# Altium footprint library 165mm-v1.PcbLib: 63 footprints (part 4 of 4)
Each footprint in its own frame and in the unit in brackets; x right, y up, seen from the top. Pads: shape width x height; smd on the part's side, far side on the other; paste and mask are expansions set on the pad; w line width, h text height; cw(c..) or ccw(c..) is an arc to the next point about the centre after c.
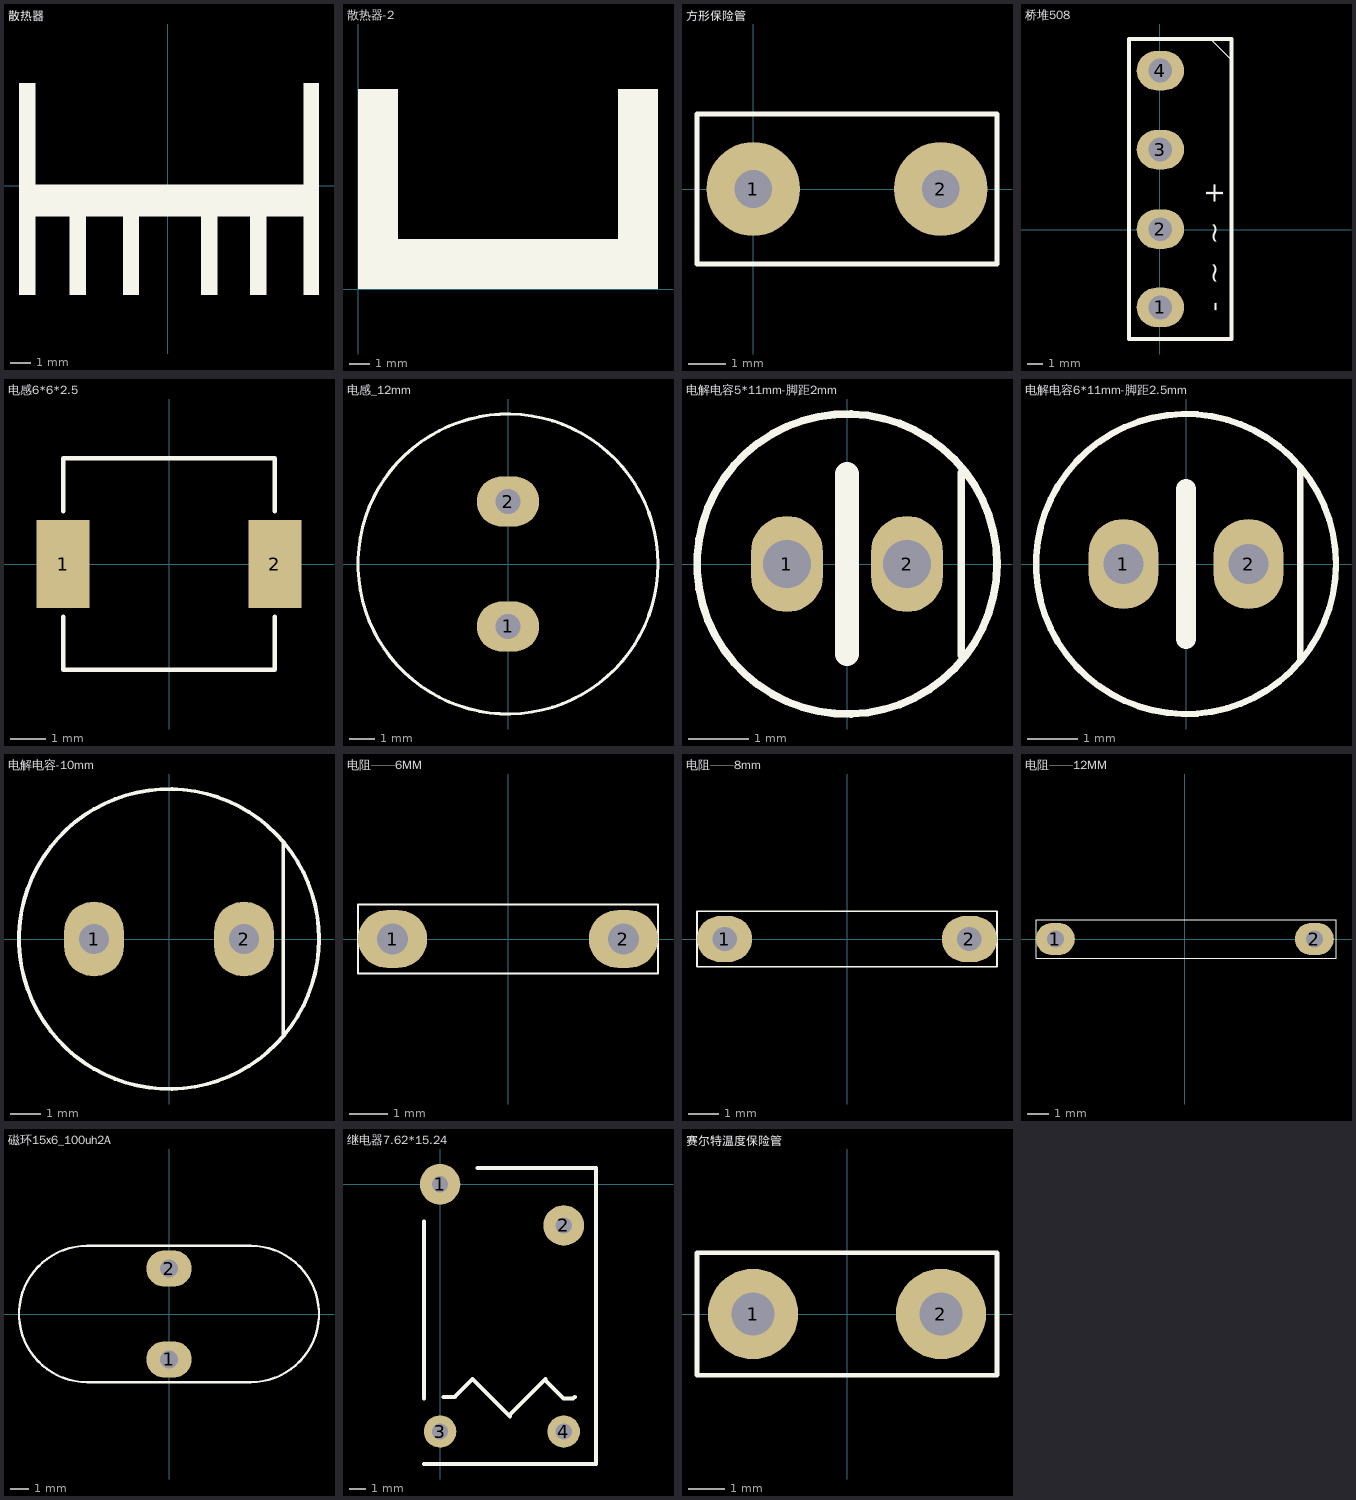
[diagram p3: the footprints below, top view; thin cyan lines are the x and y axes]

## 散热器 [mm]
height 25
Top Overlay:
  rectangle: 4.011,-5.3 4.811,-1.5
  rectangle: 1.611,-5.298 2.413,-1.234
  rectangle: -2.189,-5.3 -1.389,-1.5
  rectangle: -4.789,-5.3 -3.989,-1.5
  rectangle: -6.439,-1.49 6.604,0
  rectangle: 6.604,-5.3 7.361,5
  rectangle: -7.239,-5.3 -6.439,5
  lines w0.127: -6.439,0 6.604,0

## 散热器-2 [mm]
Top Overlay:
  rectangle: 0,0 15,2.5
  rectangle: 0,2.5 2,10
  rectangle: 13,2.5 15,10

## 方形保险管 [mm]
height 9.6
pads (2):
  round 2.5 hole 1: 1(0,0) 2(5,0)
Top Overlay:
  lines w0.127: -1.5,-2 -1.5,2 6.5,2 6.5,-2 -1.5,-2

## 桥堆508 [mm]
height 9.6
pads (4):
  oval 3x2.5 hole 1.5: 1(0.027,-4.933) 2(0.027,0.027) 3(0.027,5.067) 4(0.027,10.067)
Top Overlay:
  lines w0.1: 3,12.067 3.06,12.067 ; 3.2,12.067 4.527,10.74 4.527,10.6
  lines w0.254: -1.973,-6.933 4.527,-6.933 4.527,12.067 -1.973,12.067 -1.973,-6.933
  text "-  ~  ~  +" at 4,-5.2 h1.27

## 电感6*6*2.5 [mm]
pads (2):
  rect 1.5x2.5 smd: 1(-3,0) 2(3,0)
Top Overlay:
  lines w0.127: -3,-1.5 -3,-3 3,-3 3,-1.5 ; -3,1.5 -3,3 3,3 3,1.5

## 电感_12mm [mm]
pads (2):
  oval 2.5x2 hole 1: 1(0,-2.5) 2(0,2.5)
Top Overlay:
  circle w0.127: c0,0 r6

## 电解电容5*11mm-脚距2mm [mm]
height 11
pads (2):
  oval 1.2x1.6 hole 0.8: 1(-1,0) 2(1,0)
Top Overlay:
  circle w0.127: c0,0 r2.5
  lines w0.127: 1.905,-1.524 1.905,1.524
  lines w0.4: 0,-1.5 0,1.5
Bottom Overlay:
  lines w0.4: 0,-1.5 0,1.5

## 电解电容6*11mm-脚距2.5mm [mm]
height 11
pads (2):
  oval 1.4x1.8 hole 0.8: 1(-1.25,0) 2(1.25,0)
Top Overlay:
  circle w0.127: c0,0 r3
  lines w0.127: 2.286,-1.905 2.286,1.905
  lines w0.4: 0,-1.5 0,1.5
Bottom Overlay:
  lines w0.4: 0,-1.5 0,1.5

## 电解电容-10mm [mm]
height 13
pads (2):
  oval 2x2.5 hole 1: 1(-2.5,0) 2(2.5,0)
Top Overlay:
  circle w0.127: c0,0 r5
  lines w0.127: 3.81,-3.175 3.81,3.175

## 电阻——6MM [mm]
pads (2):
  oval 1.8x1.5 hole 0.8: 1(-3,0) 2(3,0)
Top Overlay:
  lines w0.05: -3.9,-0.9 -3.9,0.9 3.9,0.9 3.9,-0.9 -3.9,-0.9

## 电阻——8mm [mm]
pads (2):
  oval 1.8x1.5 hole 0.8: 1(-4,0) 2(4,0)
Top Overlay:
  lines w0.05: -4.9,-0.9 -4.9,0.9 4.9,0.9 4.9,-0.9 -4.9,-0.9

## 电阻——12MM [mm]
pads (2):
  oval 1.8x1.5 hole 0.8: 1(-6,0) 2(6,0)
Top Overlay:
  lines w0.05: -6.9,-0.9 -6.9,0.9 7,0.9 7,-0.9 -6.9,-0.9

## 磁环15x6_100uh2A [mm]
height 25
pads (2):
  oval 2.5x2 hole 1: 1(0,-2.5) 2(0,2.5)
Top Overlay:
  lines w0.127: -4.5,-3.75 cw(c-4.5,0) -4.5,3.75 4.5,3.75 cw(c4.5,0) 4.5,-3.75 -4.5,-3.75

## 继电器7.62*15.24 [mm]
height 9.6
pads (4):
  round 2.5 hole 1: 1(0,0) 2(7.62,-2.54)
  round 2 hole 1: 3(0,-15.24) 4(7.62,-15.24)
Top Overlay:
  lines w0.254: -1,-17.24 9.62,-17.24 9.62,1 2.3,1 ; -1,-13.2 -1,-2.3 ; 0.2,-13.1 0.9,-13.1 2,-12 4.3,-14.3 4.3,-14.2 6.5,-12 6.5,-12.1 7.6,-13.2 8.2,-13.2 8.3,-13.1

## 赛尔特温度保险管 [mm]
pads (2):
  round 2.5 hole 1.2: 1(-2.6,0) 2(2.6,0)
Top Overlay:
  lines w0.127: -4.15,-1.7 4.15,-1.7 4.15,1.7 -4.15,1.7 -4.15,-1.7